# Altium footprint library PHDR-2X10-TH-M.PcbLib: 1 footprints
Each footprint in its own frame and in the unit in brackets; x right, y up, seen from the top. Pads: shape width x height; smd on the part's side, far side on the other; paste and mask are expansions set on the pad; w line width, h text height; cw(c..) or ccw(c..) is an arc to the next point about the centre after c.
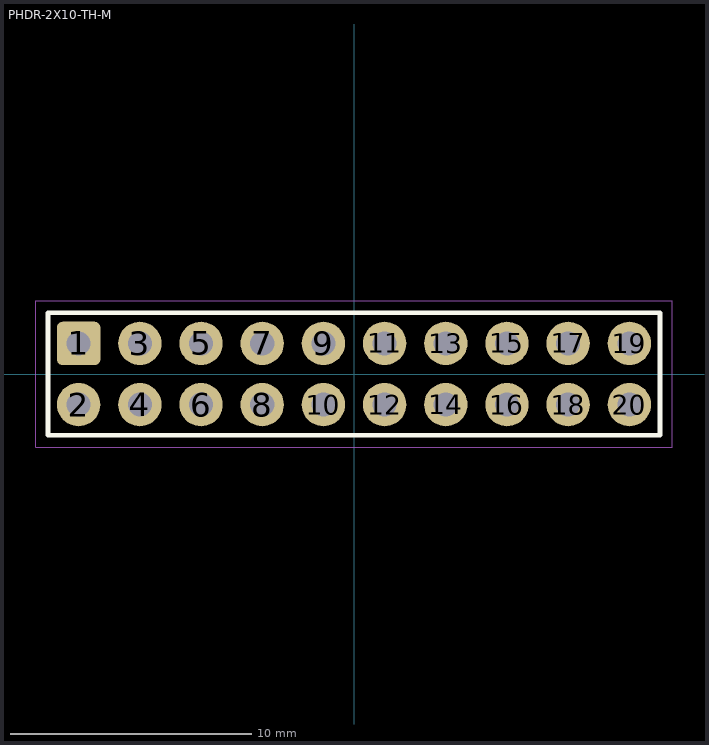
[diagram p0: the footprint, top view; thin cyan lines are the x and y axes]

## PHDR-2X10-TH-M [mm] "PinHeader 2x10 TH Pitch 2.54mm"
height 9.5
pads (20):
  rrect25% 1.8x1.8 hole 1: 1(-11.43,1.27)
  round 1.8 hole 1: 2(-11.43,-1.27) 3(-8.89,1.27) 4(-8.89,-1.27) 5(-6.35,1.27) 6(-6.35,-1.27) 7(-3.81,1.27) 8(-3.81,-1.27) 9(-1.27,1.27) 10(-1.27,-1.27) 11(1.27,1.27) 12(1.27,-1.27) 13(3.81,1.27) 14(3.81,-1.27) 15(6.35,1.27) 16(6.35,-1.27) 17(8.89,1.27) 18(8.89,-1.27) 19(11.43,1.27) 20(11.43,-1.27)
Top Overlay:
  lines w0.2: -12.7,-2.54 -12.7,2.54 12.7,2.54 12.7,-2.54 -12.7,-2.54
Top Assembly:
  lines w0.1: -12.7,-2.54 -12.7,2.54 12.7,2.54 12.7,-2.54 -12.7,-2.54
Top Courtyard:
  lines w0.05: -13.208,-3.048 -13.208,3.048 13.208,3.048 13.208,-3.048 -13.208,-3.048
Top Designator:
  text ".Designator" at -7.498,-0.5 h1.5
3D body "Pin Header 2x10 TH Pitch 2.54mm.stp": height 9.5, standoff -3.2, extent -12.7,-2.54 12.7,2.54